# Altium schematic symbol library WE-SPXO.SchLib: 254 symbols (part 5 of 5)
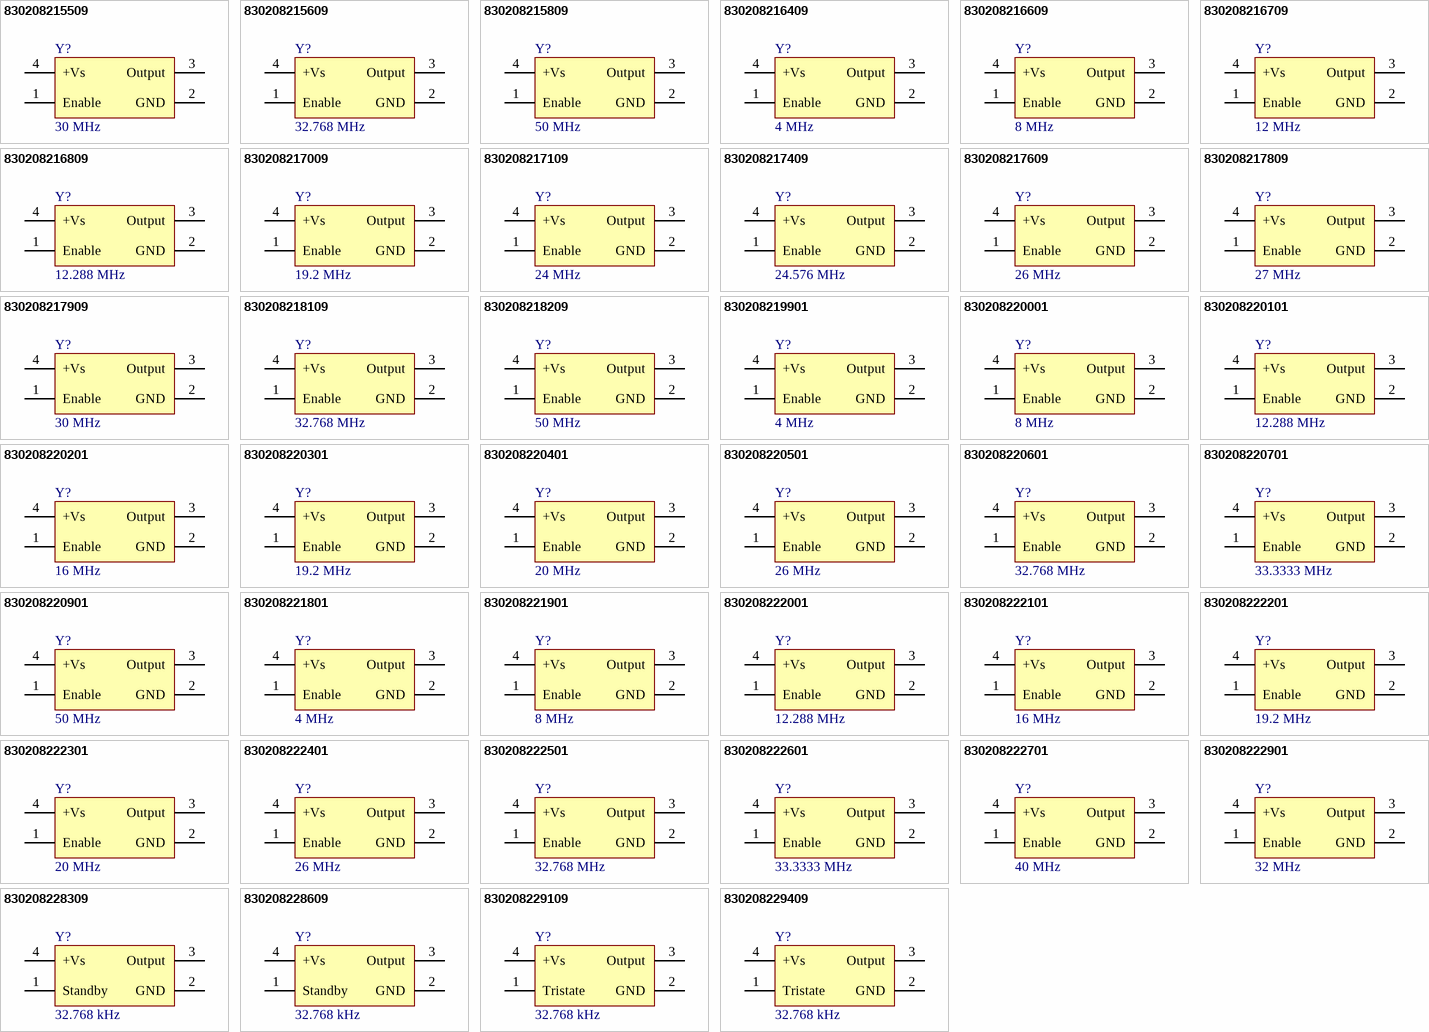
[diagram p10: symbols 830208215509 to 830208229409]

## 830208222301
designator Y?, comment 20 MHz
WE-SPXO Simple Packaged Quartz Oscillator, IQXO-794, 20 MHz, 25 ppm, 1.8 V; Manufacturer Part Number: 830208222301; Manufacturer: Wurth Elektronik; Frequency Stability: 25 ppm; Output Logic: CMOS; Supply Voltage: 1.8 V; Category: Oscillators; Match Code: WE-SPXO; ComponentLink1Description: Website Link; ComponentLink1URL: https://www.we-online.com/redexpert/article/830208222301?ad; ComponentLink2Description: Datasheet Link; ComponentLink2URL: https://www.we-online.com/redexpert/spec/830208222301?ad; Mount: Surface Mount; Min Operating Temperature: -20 °C; Max Operating Temperature: 70 °C; Packaging: Tape and Reel; Case/Size Code: IQXO-794; Length: 2.5 mm; Width: 2 mm; Height: 1 mm; Application: Processor, CAN, USB, Ethernet, Wi-Fi; Frequency: 20 MHz
footprint WE-SPXO_IQXO-794
pins: 1 Enable, 2 GND, 3 Output, 4 +Vs

## 830208222401
designator Y?, comment 26 MHz
WE-SPXO Simple Packaged Quartz Oscillator, IQXO-794, 26 MHz, 25 ppm, 1.8 V; Manufacturer Part Number: 830208222401; Manufacturer: Wurth Elektronik; Frequency Stability: 25 ppm; Output Logic: CMOS; Supply Voltage: 1.8 V; Category: Oscillators; Match Code: WE-SPXO; ComponentLink1Description: Website Link; ComponentLink1URL: https://www.we-online.com/redexpert/article/830208222401?ad; ComponentLink2Description: Datasheet Link; ComponentLink2URL: https://www.we-online.com/redexpert/spec/830208222401?ad; Mount: Surface Mount; Min Operating Temperature: -20 °C; Max Operating Temperature: 70 °C; Packaging: Tape and Reel; Case/Size Code: IQXO-794; Length: 2.5 mm; Width: 2 mm; Height: 1 mm; Application: CAN, Bluetooth, GPS, Small Cell; Frequency: 26 MHz
footprint WE-SPXO_IQXO-794
pins: 1 Enable, 2 GND, 3 Output, 4 +Vs

## 830208222501
designator Y?, comment 32.768 MHz
WE-SPXO Simple Packaged Quartz Oscillator, IQXO-794, 32.768 MHz, 25 ppm, 1.8 V; Manufacturer Part Number: 830208222501; Manufacturer: Wurth Elektronik; Frequency Stability: 25 ppm; Output Logic: CMOS; Supply Voltage: 1.8 V; Category: Oscillators; Match Code: WE-SPXO; ComponentLink1Description: Website Link; ComponentLink1URL: https://www.we-online.com/redexpert/article/830208222501?ad; ComponentLink2Description: Datasheet Link; ComponentLink2URL: https://www.we-online.com/redexpert/spec/830208222501?ad; Mount: Surface Mount; Min Operating Temperature: -20 °C; Max Operating Temperature: 70 °C; Packaging: Tape and Reel; Case/Size Code: IQXO-794; Length: 2.5 mm; Width: 2 mm; Height: 1 mm; Application: Processor; Frequency: 32.768 MHz
footprint WE-SPXO_IQXO-794
pins: 1 Enable, 2 GND, 3 Output, 4 +Vs

## 830208222601
designator Y?, comment 33.3333 MHz
WE-SPXO Simple Packaged Quartz Oscillator, IQXO-794, 33.3333 MHz, 25 ppm, 1.8 V; Manufacturer Part Number: 830208222601; Manufacturer: Wurth Elektronik; Frequency Stability: 25 ppm; Output Logic: CMOS; Supply Voltage: 1.8 V; Category: Oscillators; Match Code: WE-SPXO; ComponentLink1Description: Website Link; ComponentLink1URL: https://www.we-online.com/redexpert/article/830208222601?ad; ComponentLink2Description: Datasheet Link; ComponentLink2URL: https://www.we-online.com/redexpert/spec/830208222601?ad; Mount: Surface Mount; Min Operating Temperature: -20 °C; Max Operating Temperature: 70 °C; Packaging: Tape and Reel; Case/Size Code: IQXO-794; Length: 2.5 mm; Width: 2 mm; Height: 1 mm; Application: Processor; Frequency: 33.3333 MHz
footprint WE-SPXO_IQXO-794
pins: 1 Enable, 2 GND, 3 Output, 4 +Vs

## 830208222701
designator Y?, comment 40 MHz
WE-SPXO Simple Packaged Quartz Oscillator, IQXO-794, 40 MHz, 25 ppm, 1.8 V; Manufacturer Part Number: 830208222701; Manufacturer: Wurth Elektronik; Frequency Stability: 25 ppm; Output Logic: CMOS; Supply Voltage: 1.8 V; Category: Oscillators; Match Code: WE-SPXO; ComponentLink1Description: Website Link; ComponentLink1URL: https://www.we-online.com/redexpert/article/830208222701?ad; ComponentLink2Description: Datasheet Link; ComponentLink2URL: https://www.we-online.com/redexpert/spec/830208222701?ad; Mount: Surface Mount; Min Operating Temperature: -20 °C; Max Operating Temperature: 70 °C; Packaging: Tape and Reel; Case/Size Code: IQXO-794; Length: 2.5 mm; Width: 2 mm; Height: 1 mm; Application: Processor, USB, 3G/4G/5G, CAN, Wi-Fi; Frequency: 40 MHz
footprint WE-SPXO_IQXO-794
pins: 1 Enable, 2 GND, 3 Output, 4 +Vs

## 830208222901
designator Y?, comment 32 MHz
WE-SPXO Simple Packaged Quartz Oscillator, IQXO-794, 32 MHz, 25 ppm, 1.8 V; Manufacturer Part Number: 830208222901; Manufacturer: Wurth Elektronik; Frequency Stability: 25 ppm; Output Logic: CMOS; Supply Voltage: 1.8 V; Category: Oscillators; Match Code: WE-SPXO; ComponentLink1Description: Website Link; ComponentLink1URL: https://www.we-online.com/redexpert/article/830208222901?ad; ComponentLink2Description: Datasheet Link; ComponentLink2URL: https://www.we-online.com/redexpert/spec/830208222901?ad; Mount: Surface Mount; Min Operating Temperature: -20 °C; Max Operating Temperature: 70 °C; Packaging: Tape and Reel; Case/Size Code: IQXO-794; Length: 2.5 mm; Width: 2 mm; Height: 1 mm; Application: Processor, Bluetooth; Frequency: 32 MHz
footprint WE-SPXO_IQXO-794
pins: 1 Enable, 2 GND, 3 Output, 4 +Vs

## 830208228309
designator Y?, comment 32.768 kHz
WE-SPXO Simple Packaged Quartz Oscillator, CFPS-102, 32.768 kHz, 100 ppm, 1.8 V; Manufacturer Part Number: 830208228309; Manufacturer: Wurth Elektronik; Frequency Stability: 100 ppm; Output Logic: CMOS; Supply Voltage: 1.8 V; Category: Oscillators; Match Code: WE-SPXO; ComponentLink1Description: Website Link; ComponentLink1URL: https://www.we-online.com/redexpert/article/830208228309?ad; ComponentLink2Description: Datasheet Link; ComponentLink2URL: https://www.we-online.com/redexpert/spec/830208228309?ad; Mount: Surface Mount; Min Operating Temperature: -40 °C; Max Operating Temperature: 125 °C; Packaging: Tape and Reel; Case/Size Code: CFPS-102; Length: 3.2 mm; Width: 2.5 mm; Height: 1.2 mm; Application: Real Time Clock; Frequency: 32.768 kHz
footprint WE-SPXO_CFPS-102
pins: 1 Standby, 2 GND, 3 Output, 4 +Vs

## 830208228609
designator Y?, comment 32.768 kHz
WE-SPXO Simple Packaged Quartz Oscillator, CFPS-104, 32.768 kHz, 100 ppm, 3.3 V; Manufacturer Part Number: 830208228609; Manufacturer: Wurth Elektronik; Frequency Stability: 100 ppm; Output Logic: CMOS; Supply Voltage: 3.3 V; Category: Oscillators; Match Code: WE-SPXO; ComponentLink1Description: Website Link; ComponentLink1URL: https://www.we-online.com/redexpert/article/830208228609?ad; ComponentLink2Description: Datasheet Link; ComponentLink2URL: https://www.we-online.com/redexpert/spec/830208228609?ad; Mount: Surface Mount; Min Operating Temperature: -40 °C; Max Operating Temperature: 125 °C; Packaging: Tape and Reel; Case/Size Code: CFPS-104; Length: 3.2 mm; Width: 2.5 mm; Height: 1.2 mm; Application: Real Time Clock; Frequency: 32.768 kHz
footprint WE-SPXO_CFPS-104
pins: 1 Standby, 2 GND, 3 Output, 4 +Vs

## 830208229109
designator Y?, comment 32.768 kHz
WE-SPXO Simple Packaged Quartz Oscillator, CFPS-107, 32.768 kHz, 100 ppm, 1.8 V; Manufacturer Part Number: 830208229109; Manufacturer: Wurth Elektronik; Frequency Stability: 100 ppm; Output Logic: CMOS; Supply Voltage: 1.8 V; Category: Oscillators; Match Code: WE-SPXO; ComponentLink1Description: Website Link; ComponentLink1URL: https://www.we-online.com/redexpert/article/830208229109?ad; ComponentLink2Description: Datasheet Link; ComponentLink2URL: https://www.we-online.com/redexpert/spec/830208229109?ad; Mount: Surface Mount; Min Operating Temperature: -40 °C; Max Operating Temperature: 125 °C; Packaging: Tape and Reel; Case/Size Code: CFPS-107; Length: 2.5 mm; Width: 2 mm; Height: 0.95 mm; Application: Real Time Clock; Frequency: 32.768 kHz
footprint WE-SPXO_CFPS-107
pins: 1 Tristate, 2 GND, 3 Output, 4 +Vs

## 830208229409
designator Y?, comment 32.768 kHz
WE-SPXO Simple Packaged Quartz Oscillator, CFPS-109, 32.768 kHz, 100 ppm, 3.3 V; Manufacturer Part Number: 830208229409; Manufacturer: Wurth Elektronik; Frequency Stability: 100 ppm; Output Logic: CMOS; Supply Voltage: 3.3 V; Category: Oscillators; Match Code: WE-SPXO; ComponentLink1Description: Website Link; ComponentLink1URL: https://www.we-online.com/redexpert/article/830208229409?ad; ComponentLink2Description: Datasheet Link; ComponentLink2URL: https://www.we-online.com/redexpert/spec/830208229409?ad; Mount: Surface Mount; Min Operating Temperature: -40 °C; Max Operating Temperature: 125 °C; Packaging: Tape and Reel; Case/Size Code: CFPS-109; Length: 2.5 mm; Width: 2 mm; Height: 0.95 mm; Application: Real Time Clock; Frequency: 32.768 kHz
footprint WE-SPXO_CFPS-109
pins: 1 Tristate, 2 GND, 3 Output, 4 +Vs

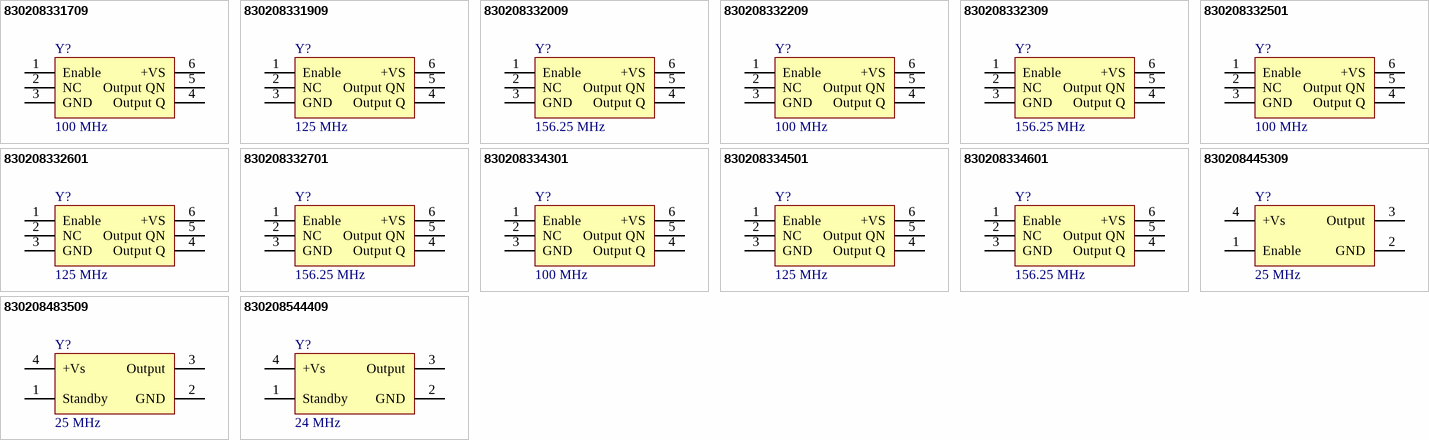
[diagram p6: symbols 830208331709 to 830208544409]

## 830208331709
designator Y?, comment 100 MHz
WE-SPXO Simple Packaged Quartz Oscillator, IQXO-618-33, 100 MHz, 50 ppm, 3.3 V; Manufacturer Part Number: 830208331709; Manufacturer: Wurth Elektronik; Frequency Stability: 50 ppm; Output Logic: LVDS; Supply Voltage: 3.3 V; Category: Oscillators; Match Code: WE-SPXO; ComponentLink1Description: Website Link; ComponentLink1URL: https://www.we-online.com/redexpert/article/830208331709?ad; ComponentLink2Description: Datasheet Link; ComponentLink2URL: https://www.we-online.com/redexpert/spec/830208331709?ad; Mount: Surface Mount; Min Operating Temperature: -40 °C; Max Operating Temperature: 105 °C; Packaging: Tape and Reel; Case/Size Code: IQXO-618-33; Length: 3.2 mm; Width: 2.5 mm; Height: 1.1 mm; Application: Processor, Ethernet, PCI Express, PHY; Frequency: 100 MHz
footprint WE-SPXO_IQXO-618-33
pins: 1 Enable, 2 NC, 3 GND, 4 Output Q, 5 Output QN, 6 +VS

## 830208331909
designator Y?, comment 125 MHz
WE-SPXO Simple Packaged Quartz Oscillator, IQXO-618-33, 125 MHz, 50 ppm, 3.3 V; Manufacturer Part Number: 830208331909; Manufacturer: Wurth Elektronik; Frequency Stability: 50 ppm; Output Logic: LVDS; Supply Voltage: 3.3 V; Category: Oscillators; Match Code: WE-SPXO; ComponentLink1Description: Website Link; ComponentLink1URL: https://www.we-online.com/redexpert/article/830208331909?ad; ComponentLink2Description: Datasheet Link; ComponentLink2URL: https://www.we-online.com/redexpert/spec/830208331909?ad; Mount: Surface Mount; Min Operating Temperature: -40 °C; Max Operating Temperature: 105 °C; Packaging: Tape and Reel; Case/Size Code: IQXO-618-33; Length: 3.2 mm; Width: 2.5 mm; Height: 1.1 mm; Application: Ethernet, PHY; Frequency: 125 MHz
footprint WE-SPXO_IQXO-618-33
pins: 1 Enable, 2 NC, 3 GND, 4 Output Q, 5 Output QN, 6 +VS

## 830208332009
designator Y?, comment 156.25 MHz
WE-SPXO Simple Packaged Quartz Oscillator, IQXO-618-33, 156.25 MHz, 50 ppm, 3.3 V; Manufacturer Part Number: 830208332009; Manufacturer: Wurth Elektronik; Frequency Stability: 50 ppm; Output Logic: LVDS; Supply Voltage: 3.3 V; Category: Oscillators; Match Code: WE-SPXO; ComponentLink1Description: Website Link; ComponentLink1URL: https://www.we-online.com/redexpert/article/830208332009?ad; ComponentLink2Description: Datasheet Link; ComponentLink2URL: https://www.we-online.com/redexpert/spec/830208332009?ad; Mount: Surface Mount; Min Operating Temperature: -40 °C; Max Operating Temperature: 105 °C; Packaging: Tape and Reel; Case/Size Code: IQXO-618-33; Length: 3.2 mm; Width: 2.5 mm; Height: 1.1 mm; Application: Ethernet; Frequency: 156.25 MHz
footprint WE-SPXO_IQXO-618-33
pins: 1 Enable, 2 NC, 3 GND, 4 Output Q, 5 Output QN, 6 +VS

## 830208332209
designator Y?, comment 100 MHz
WE-SPXO Simple Packaged Quartz Oscillator, IQXO-618-25, 100 MHz, 50 ppm, 2.5 V; Manufacturer Part Number: 830208332209; Manufacturer: Wurth Elektronik; Frequency Stability: 50 ppm; Output Logic: LVDS; Supply Voltage: 2.5 V; Category: Oscillators; Match Code: WE-SPXO; ComponentLink1Description: Website Link; ComponentLink1URL: https://www.we-online.com/redexpert/article/830208332209?ad; ComponentLink2Description: Datasheet Link; ComponentLink2URL: https://www.we-online.com/redexpert/spec/830208332209?ad; Mount: Surface Mount; Min Operating Temperature: -40 °C; Max Operating Temperature: 105 °C; Packaging: Tape and Reel; Case/Size Code: IQXO-618-25; Length: 3.2 mm; Width: 2.5 mm; Height: 1.1 mm; Application: Processor, Ethernet, PCI Express, PHY; Frequency: 100 MHz
footprint WE-SPXO_IQXO-618-25
pins: 1 Enable, 2 NC, 3 GND, 4 Output Q, 5 Output QN, 6 +VS

## 830208332309
designator Y?, comment 156.25 MHz
WE-SPXO Simple Packaged Quartz Oscillator, IQXO-618-25, 156.25 MHz, 50 ppm, 2.5 V; Manufacturer Part Number: 830208332309; Manufacturer: Wurth Elektronik; Frequency Stability: 50 ppm; Output Logic: LVDS; Supply Voltage: 2.5 V; Category: Oscillators; Match Code: WE-SPXO; ComponentLink1Description: Website Link; ComponentLink1URL: https://www.we-online.com/redexpert/article/830208332309?ad; ComponentLink2Description: Datasheet Link; ComponentLink2URL: https://www.we-online.com/redexpert/spec/830208332309?ad; Mount: Surface Mount; Min Operating Temperature: -40 °C; Max Operating Temperature: 105 °C; Packaging: Tape and Reel; Case/Size Code: IQXO-618-25; Length: 3.2 mm; Width: 2.5 mm; Height: 1.1 mm; Application: Ethernet; Frequency: 156.25 MHz
footprint WE-SPXO_IQXO-618-25
pins: 1 Enable, 2 NC, 3 GND, 4 Output Q, 5 Output QN, 6 +VS

## 830208332501
designator Y?, comment 100 MHz
WE-SPXO Simple Packaged Quartz Oscillator, IQXO-623, 100 MHz, 50 ppm, 2.5 V; Manufacturer Part Number: 830208332501; Manufacturer: Wurth Elektronik; Frequency Stability: 50 ppm; Output Logic: LVPECL; Supply Voltage: 2.5 V; Category: Oscillators; Match Code: WE-SPXO; ComponentLink1Description: Website Link; ComponentLink1URL: https://www.we-online.com/redexpert/article/830208332501?ad; ComponentLink2Description: Datasheet Link; ComponentLink2URL: https://www.we-online.com/redexpert/spec/830208332501?ad; Mount: Surface Mount; Min Operating Temperature: -40 °C; Max Operating Temperature: 105 °C; Packaging: Tape and Reel; Case/Size Code: IQXO-623; Length: 3.2 mm; Width: 2.5 mm; Height: 1.1 mm; Application: Processor, Ethernet, PCI Express, PHY; Frequency: 100 MHz
footprint WE-SPXO_IQXO-623
pins: 1 Enable, 2 NC, 3 GND, 4 Output Q, 5 Output QN, 6 +VS

## 830208332601
designator Y?, comment 125 MHz
WE-SPXO Simple Packaged Quartz Oscillator, IQXO-623, 125 MHz, 50 ppm, 2.5 V; Manufacturer Part Number: 830208332601; Manufacturer: Wurth Elektronik; Frequency Stability: 50 ppm; Output Logic: LVPECL; Supply Voltage: 2.5 V; Category: Oscillators; Match Code: WE-SPXO; ComponentLink1Description: Website Link; ComponentLink1URL: https://www.we-online.com/redexpert/article/830208332601?ad; ComponentLink2Description: Datasheet Link; ComponentLink2URL: https://www.we-online.com/redexpert/spec/830208332601?ad; Mount: Surface Mount; Min Operating Temperature: -40 °C; Max Operating Temperature: 105 °C; Packaging: Tape and Reel; Case/Size Code: IQXO-623; Length: 3.2 mm; Width: 2.5 mm; Height: 1.1 mm; Application: Ethernet, PHY; Frequency: 125 MHz
footprint WE-SPXO_IQXO-623
pins: 1 Enable, 2 NC, 3 GND, 4 Output Q, 5 Output QN, 6 +VS

## 830208332701
designator Y?, comment 156.25 MHz
WE-SPXO Simple Packaged Quartz Oscillator, IQXO-623, 156.25 MHz, 50 ppm, 2.5 V; Manufacturer Part Number: 830208332701; Manufacturer: Wurth Elektronik; Frequency Stability: 50 ppm; Output Logic: LVPECL; Supply Voltage: 2.5 V; Category: Oscillators; Match Code: WE-SPXO; ComponentLink1Description: Website Link; ComponentLink1URL: https://www.we-online.com/redexpert/article/830208332701?ad; ComponentLink2Description: Datasheet Link; ComponentLink2URL: https://www.we-online.com/redexpert/spec/830208332701?ad; Mount: Surface Mount; Min Operating Temperature: -40 °C; Max Operating Temperature: 105 °C; Packaging: Tape and Reel; Case/Size Code: IQXO-623; Length: 3.2 mm; Width: 2.5 mm; Height: 1.1 mm; Application: Ethernet; Frequency: 156.25 MHz
footprint WE-SPXO_IQXO-623
pins: 1 Enable, 2 NC, 3 GND, 4 Output Q, 5 Output QN, 6 +VS

## 830208334301
designator Y?, comment 100 MHz
WE-SPXO Simple Packaged Quartz Oscillator, IQXO-624, 100 MHz, 50 ppm, 3.3 V; Manufacturer Part Number: 830208334301; Manufacturer: Wurth Elektronik; Frequency Stability: 50 ppm; Output Logic: LVPECL; Supply Voltage: 3.3 V; Category: Oscillators; Match Code: WE-SPXO; ComponentLink1Description: Website Link; ComponentLink1URL: https://www.we-online.com/redexpert/article/830208334301?ad; ComponentLink2Description: Datasheet Link; ComponentLink2URL: https://www.we-online.com/redexpert/spec/830208334301?ad; Mount: Surface Mount; Min Operating Temperature: -40 °C; Max Operating Temperature: 105 °C; Packaging: Tape and Reel; Case/Size Code: IQXO-624; Length: 3.2 mm; Width: 2.5 mm; Height: 1.1 mm; Application: Processor, Ethernet, PCI Express, PHY; Frequency: 100 MHz
footprint WE-SPXO_IQXO-624
pins: 1 Enable, 2 NC, 3 GND, 4 Output Q, 5 Output QN, 6 +VS

## 830208334501
designator Y?, comment 125 MHz
WE-SPXO Simple Packaged Quartz Oscillator, IQXO-624, 125 MHz, 50 ppm, 3.3 V; Manufacturer Part Number: 830208334501; Manufacturer: Wurth Elektronik; Frequency Stability: 50 ppm; Output Logic: LVPECL; Supply Voltage: 3.3 V; Category: Oscillators; Match Code: WE-SPXO; ComponentLink1Description: Website Link; ComponentLink1URL: https://www.we-online.com/redexpert/article/830208334501?ad; ComponentLink2Description: Datasheet Link; ComponentLink2URL: https://www.we-online.com/redexpert/spec/830208334501?ad; Mount: Surface Mount; Min Operating Temperature: -40 °C; Max Operating Temperature: 105 °C; Packaging: Tape and Reel; Case/Size Code: IQXO-624; Length: 3.2 mm; Width: 2.5 mm; Height: 1.1 mm; Application: Ethernet, PHY; Frequency: 125 MHz
footprint WE-SPXO_IQXO-624
pins: 1 Enable, 2 NC, 3 GND, 4 Output Q, 5 Output QN, 6 +VS

## 830208334601
designator Y?, comment 156.25 MHz
WE-SPXO Simple Packaged Quartz Oscillator, IQXO-624, 156.25 MHz, 50 ppm, 3.3 V; Manufacturer Part Number: 830208334601; Manufacturer: Wurth Elektronik; Frequency Stability: 50 ppm; Output Logic: LVPECL; Supply Voltage: 3.3 V; Category: Oscillators; Match Code: WE-SPXO; ComponentLink1Description: Website Link; ComponentLink1URL: https://www.we-online.com/redexpert/article/830208334601?ad; ComponentLink2Description: Datasheet Link; ComponentLink2URL: https://www.we-online.com/redexpert/spec/830208334601?ad; Mount: Surface Mount; Min Operating Temperature: -40 °C; Max Operating Temperature: 105 °C; Packaging: Tape and Reel; Case/Size Code: IQXO-624; Length: 3.2 mm; Width: 2.5 mm; Height: 1.1 mm; Application: Ethernet; Frequency: 156.25 MHz
footprint WE-SPXO_IQXO-624
pins: 1 Enable, 2 NC, 3 GND, 4 Output Q, 5 Output QN, 6 +VS

## 830208445309
designator Y?, comment 25 MHz
WE-SPXO Simple Packaged Quartz Oscillator, IQXO-951 2016, 25 MHz, 50 ppm, 1.62 V to 3.63 V; Manufacturer Part Number: 830208445309; Manufacturer: Wurth Elektronik; Frequency Stability: 50 ppm; Output Logic: CMOS; Category: Oscillators; Match Code: WE-SPXO; ComponentLink1Description: Website Link; ComponentLink1URL: https://www.we-online.com/redexpert/article/830208445309?ad; ComponentLink2Description: Datasheet Link; ComponentLink2URL: https://www.we-online.com/redexpert/spec/830208445309?ad; Mount: Surface Mount; Min Operating Temperature: -40 °C; Max Operating Temperature: 105 °C; Packaging: Tape and Reel; Case/Size Code: IQXO-951 2016; Length: 2 mm; Width: 1.6 mm; Height: 0.8 mm; Application: Processor, USB, 3G/4G/5G, Ethernet, Small Cell, PHY, PCI Express; Frequency: 25 MHz; Supply Voltage: 1.62 V to 3.63 V
footprint WE-SPXO_IQXO-951 2016
pins: 1 Enable, 2 GND, 3 Output, 4 +Vs

## 830208483509
designator Y?, comment 25 MHz
WE-SPXO Simple Packaged Quartz Oscillator, IQXO-951 2520, 25 MHz, 50 ppm, 1.62 V to 3.63 V; Manufacturer Part Number: 830208483509; Manufacturer: Wurth Elektronik; Frequency Stability: 50 ppm; Output Logic: CMOS; Category: Oscillators; Match Code: WE-SPXO; ComponentLink1Description: Website Link; ComponentLink1URL: https://www.we-online.com/redexpert/article/830208483509?ad; ComponentLink2Description: Datasheet Link; ComponentLink2URL: https://www.we-online.com/redexpert/spec/830208483509?ad; Mount: Surface Mount; Min Operating Temperature: -40 °C; Max Operating Temperature: 105 °C; Packaging: Tape and Reel; Case/Size Code: IQXO-951 2520; Length: 2.5 mm; Width: 2 mm; Height: 0.95 mm; Application: Processor, USB, 3G/4G/5G, Ethernet, Small Cell, PHY, PCI Express; Frequency: 25 MHz; Supply Voltage: 1.62 V to 3.63 V
footprint WE-SPXO_IQXO-951 2520
pins: 1 Standby, 2 GND, 3 Output, 4 +Vs

## 830208544409
designator Y?, comment 24 MHz
WE-SPXO Simple Packaged Quartz Oscillator, IQXO-951 2520, 24 MHz, 50 ppm, 1.62 V to 3.63 V; Manufacturer Part Number: 830208544409; Manufacturer: Wurth Elektronik; Frequency Stability: 50 ppm; Output Logic: CMOS; Category: Oscillators; Match Code: WE-SPXO; ComponentLink1Description: Website Link; ComponentLink1URL: https://www.we-online.com/redexpert/article/830208544409?ad; ComponentLink2Description: Datasheet Link; ComponentLink2URL: https://www.we-online.com/redexpert/spec/830208544409?ad; Mount: Surface Mount; Min Operating Temperature: -40 °C; Max Operating Temperature: 105 °C; Packaging: Tape and Reel; Case/Size Code: IQXO-951 2520; Length: 2.5 mm; Width: 2 mm; Height: 0.95 mm; Application: Processor, USB, Bluetooth; Frequency: 24 MHz; Supply Voltage: 1.62 V to 3.63 V
footprint WE-SPXO_IQXO-951 2520
pins: 1 Standby, 2 GND, 3 Output, 4 +Vs